# Altium schematic symbol library STM32F030CC.SchLib: 2 symbols
Pins are listed as number, name and electrical type; pins without a type are passive.

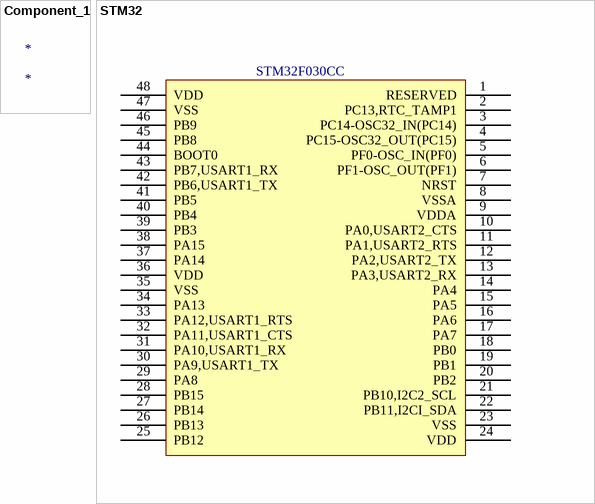
[diagram p0: symbols Component_1 to STM32]

## Component_1
designator *

## STM32
designator *
pins: 1 RESERVED, 2 PC13,RTC_TAMP1, 3 PC14-OSC32_IN(PC14), 4 PC15-OSC32_OUT(PC15), 5 PF0-OSC_IN(PF0), 6 PF1-OSC_OUT(PF1), 7 NRST, 8 VSSA, 9 VDDA, 10 PA0,USART2_CTS, 11 PA1,USART2_RTS, 12 PA2,USART2_TX, 13 PA3,USART2_RX, 14 PA4, 15 PA5, 16 PA6, 17 PA7, 18 PB0, 19 PB1, 20 PB2, 21 PB10,I2C2_SCL, 22 PB11,I2CI_SDA, 23 VSS, 24 VDD, 25 PB12, 26 PB13, 27 PB14, 28 PB15, 29 PA8, 30 PA9,USART1_TX, 31 PA10,USART1_RX, 32 PA11,USART1_CTS, 33 PA12,USART1_RTS, 34 PA13, 35 VSS, 36 VDD, 37 PA14, 38 PA15, 39 PB3, 40 PB4, 41 PB5, 42 PB6,USART1_TX, 43 PB7,USART1_RX, 44 BOOT0, 45 PB8, 46 PB9, 47 VSS, 48 VDD
text: STM32F030CC